# Altium integrated library 0603YC104K4T4A.IntLib: 1 symbol
Pins are listed as number, name and electrical type; pins without a type are passive.

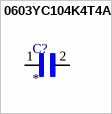
[diagram p0: symbol 0603YC104K4T4A]

## 0603YC104K4T4A
designator C?
Cap Ceramic 0.1uF 16V X7R 10% SMD 0603 125ÂÂŽ Paper T/R; MP: 0603YC104K4T4A; Package: None; Price: None; Value: *; Availability: Unavailable
footprint CAPC1608X90N
pins: 1, 2